# Altium footprint library SMM-110-02-D.PcbLib: 1 footprints
Each footprint in its own frame and in the unit in brackets; x right, y up, seen from the top. Pads: shape width x height; smd on the part's side, far side on the other; paste and mask are expansions set on the pad; w line width, h text height; cw(c..) or ccw(c..) is an arc to the next point about the centre after c.
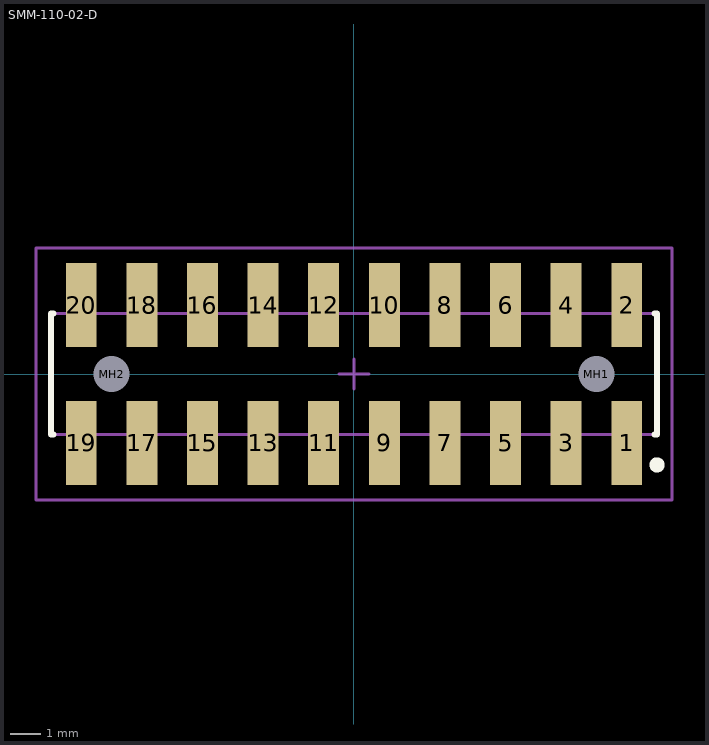
[diagram p0: the footprint, top view; thin cyan lines are the x and y axes]

## SMM-110-02-D [mm] "Connector, Socket Strip, Double Row, SMT, 20 Position, Vertical, Pitch 2mm, Body 20 x 4 mm (LxW)"
height 3.56
pads (22):
  rect 1.02x2.77 smd: 1(9,-2.275) 2(9,2.275) 3(7,-2.275) 4(7,2.275) 5(5,-2.275) 6(5,2.275) 7(3,-2.275) 8(3,2.275) 9(1,-2.275) 10(1,2.275) 11(-1,-2.275) 12(-1,2.275) 13(-3,-2.275) 14(-3,2.275) 15(-5,-2.275) 16(-5,2.275) 17(-7,-2.275) 18(-7,2.275) 19(-9,-2.275) 20(-9,2.275)
  round 0.89 hole 1.19: MH1(8,0) MH2(-8,0)
Top Overlay:
  circle w0.25: c10,-3 r0.125
  lines w0.2: -9.91,-2 -10,-2 -10,2 -9.91,2 ; 9.91,-2 10,-2 10,2 9.91,2
Top Comp Body:
  lines w0.1: -10,-2 -10,2 10,2 10,-2 -10,-2
Top Courtyard:
  lines w0.1: -0.5,0 0.5,0 ; 0,-0.5 0,0.5 ; -10.5,-4.16 -10.5,4.16 10.5,4.16 10.5,-4.16 -10.5,-4.16
3D body: height 3.56, standoff 0, extent -10,-2 10,2